# Altium footprint library relay.PCBLIB: 291 footprints (part 14 of 19)
Each footprint in its own frame and in the unit in brackets; x right, y up, seen from the top. Pads: shape width x height; smd on the part's side, far side on the other; paste and mask are expansions set on the pad; w line width, h text height; cw(c..) or ccw(c..) is an arc to the next point about the centre after c.
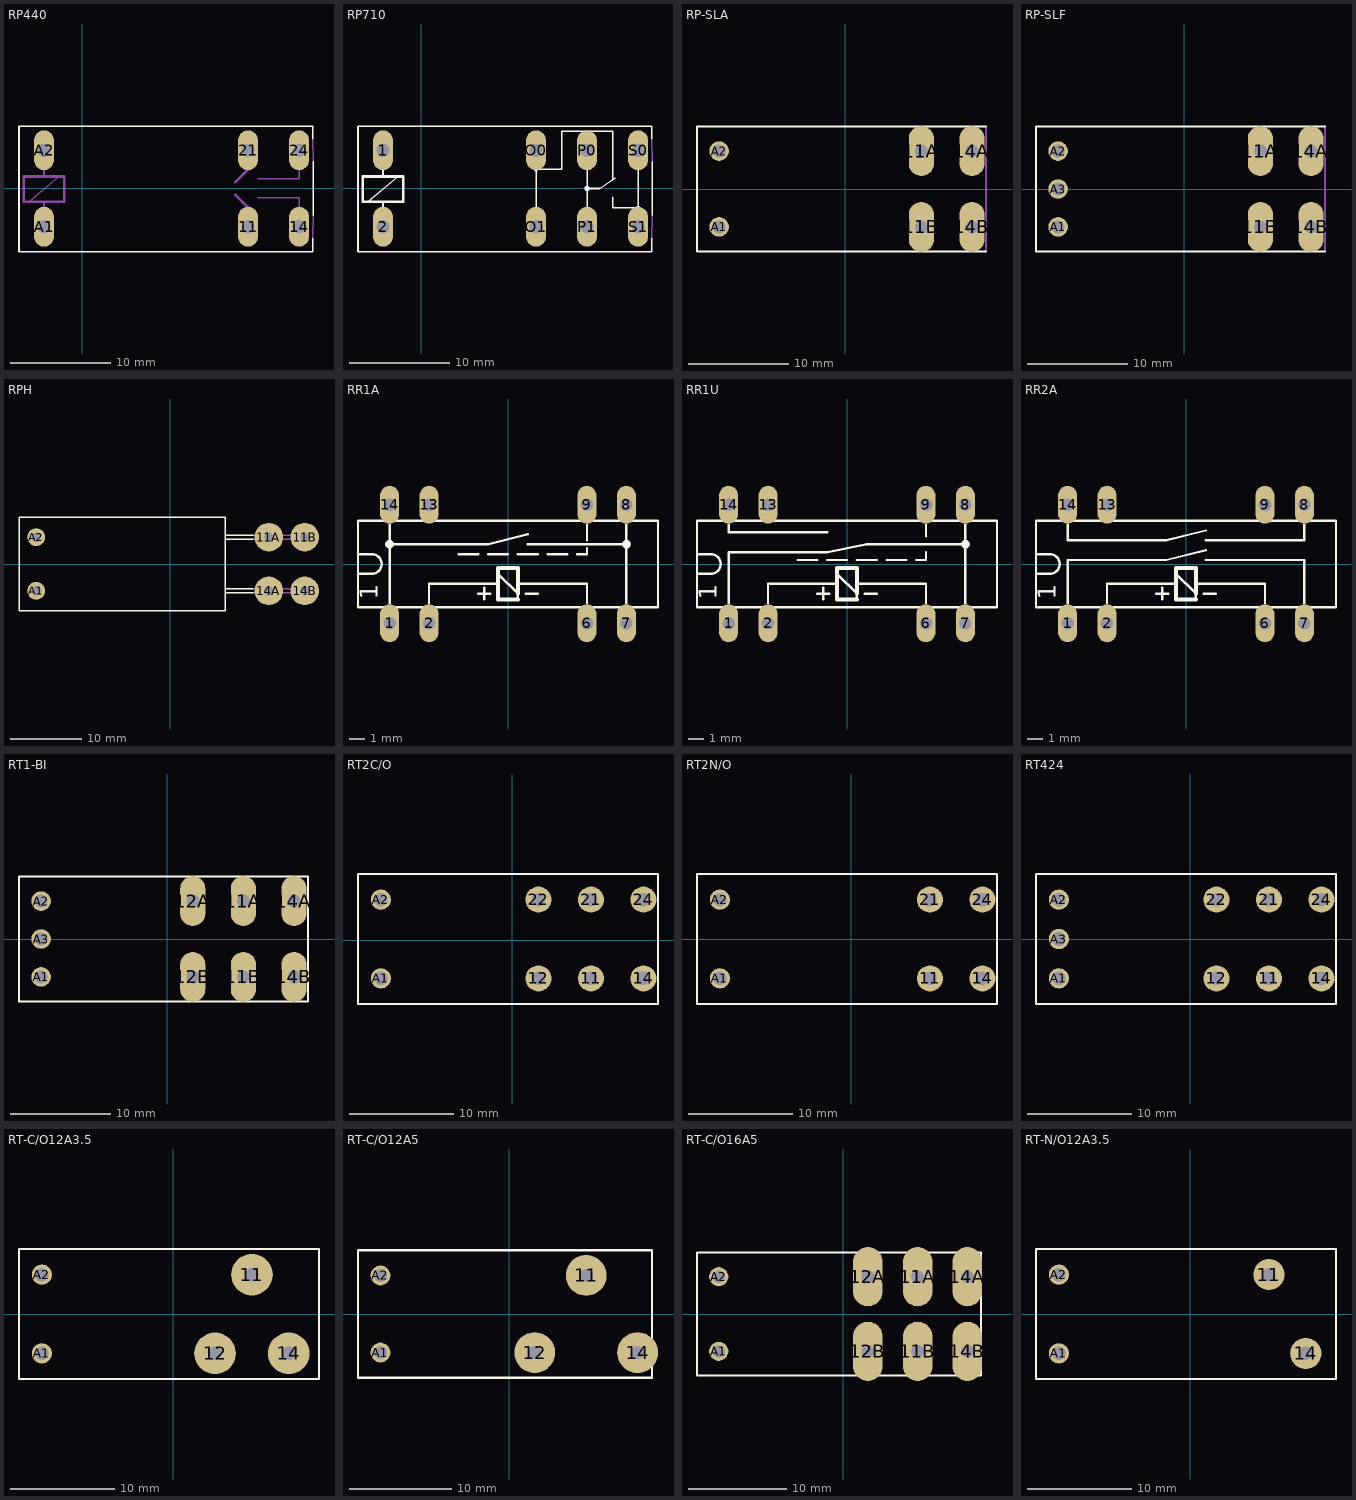
[diagram p13: the footprints below, top view; thin cyan lines are the x and y axes]

## RP440 [mil]
pads (6):
  oval 78x156 hole 52: 11(650,-150) 14(850,-150) 21(650,150) 24(850,150) A1(-150,-150) A2(-150,150)
Top Overlay:
  lines w6: 904,-195 904,-248 -248,-248 -248,244 904,244 904,195 ; 905,-105 905,105
Mechanical 16:
  lines w6: -209,-52 -91,47 ; -150,-81 -150,-52 ; -150,47 -150,81 ; 650,-100 650,-75 ; 650,75 650,100 ; 688,-37 850,-37 850,-85 ; 688,38 850,38 850,83 ; 904,-195 905,-105 ; 904,195 905,105
  lines w10: 600,-25 648.43,-72.43 ; 600,25 650,75 ; -229,-52 -229,47 -150,47 -91,47 -71,47 -71,-52 -150,-52 -209,-52 -229,-52
  text "RP420" at 200,-200 h108.5

## RP710 [mil]
pads (8):
  oval 78x156 hole 52: 1(-150,150) 2(-150,-150) O0(450,150) O1(450,-150) P0(650,150) P1(650,-150) S0(850,150) S1(850,-150)
Top Overlay:
  circle w6: c850,-75 r5
  circle w10: c650,0 r5
  circle w6: c450,75 r5
  lines w6: -209,-52 -91,47 ; -150,-81 -150,-52 ; -150,47 -150,81 ; 450,-85 450,75 ; 450,85 450,75 ; 650,-82 650,0 ; 650,83 650,0 ; 750,-35 750,-75 850,-75 ; 750,35 750,225 550,225 550,75 450,75 ; 760,40 700,0 650,0 ; 850,-85 850,-75 ; 850,85 850,-75 ; 904,-195 904,-248 -248,-248 -248,244 904,244 904,195 ; 905,-105 905,105
  lines w10: -229,-52 -229,47 -150,47 -91,47 -71,47 -71,-52 -150,-52 -209,-52 -229,-52
Mechanical 16:
  lines w6: 904,-195 905,-105 ; 904,195 905,105
  text "RP710" at 200,-200 h108.5

## RP-SLA [mil]
pads (6):
  oval 98.43x196.86 hole 51.18: 11A(297.64,148.82) 11B(297.64,-148.82) 14A(496.06,148.82) 14B(496.06,-148.82)
  round 76.77 hole 51.18: A1(-496.06,-148.82) A2(-496.06,148.82)
Top Overlay:
  lines w8: 551.18,-246.06 -582.68,-246.06 -582.68,246.06 551.18,246.06
Mechanical 16:
  lines w8: 551.18,-246.06 551.18,246.06

## RP-SLF [mil]
pads (7):
  oval 98.43x196.86 hole 51.18: 11A(297.64,148.82) 11B(297.64,-148.82) 14A(496.06,148.82) 14B(496.06,-148.82)
  round 76.77 hole 51.18: A1(-496.06,-148.82) A2(-496.06,148.82) A3(-496.06,0)
Top Overlay:
  lines w8: 551.18,-246.06 -582.68,-246.06 -582.68,246.06 551.18,246.06
Mechanical 16:
  lines w8: 551.18,-246.06 551.18,246.06

## RPH [mm]
pads (6):
  round 4 hole 1.3: 11A(13.75,3.75) 11B(18.75,3.75) 14A(13.75,-3.75) 14B(18.75,-3.75)
  round 2.5 hole 1.3: A1(-18.75,-3.75) A2(-18.75,3.75)
Top Overlay:
  lines w0.203: 7.75,-4.05 11.55,-4.05 ; 7.75,-3.45 11.55,-3.45 ; 7.75,3.45 11.55,3.45 ; 7.75,4.05 11.55,4.05 ; -21.15,-6.5 7.65,-6.5 7.65,6.5 -21.15,6.5 -21.15,-6.5
Mechanical 16:
  lines w0.203: 11.55,-4.05 13.3,-4.05 ; 11.55,-3.45 13.3,-3.45 ; 11.55,3.45 13.3,3.45 ; 11.55,4.05 13.3,4.05 ; 13.3,-4.05 19.15,-4.05 19.15,-3.45 13.3,-3.45 ; 13.3,-4.05 13.3,-3.45 ; 13.3,3.45 19.15,3.45 19.15,4.05 13.3,4.05 ; 13.3,3.45 13.3,4.05

## RR1A [mil]
pads (8):
  oval 48x96 hole 32: 1(-300,-150) 2(-200,-150) 6(200,-150) 7(300,-150) 8(300,150) 9(200,150) 13(-200,150) 14(-300,150)
Top Overlay:
  circle w12: c300,50 r5
  circle w12: c-300,50 r5
  lines w6: -300,-100 -300,50 ; -300,100 -300,50 ; -200,-100 -200,-50 -25,-50 ; -125,25 -75,25 ; -75,-75 -45,-75 ; -60,-90 -60,-60 ; -50,25 0,25 ; -25,-25 25,-75 25,-90 ; 25,-50 200,-50 200,-100 ; 25,25 75,25 ; 45,-75 75,-75 ; 50,50 300,50 ; 50,75 -50,50 -300,50 ; 100,25 150,25 ; 175,25 200,25 200,40 ; 200,60 200,100 ; 300,-100 300,50 ; 300,100 300,50 ; -380,-25 -345,-25 ccw(c-345,0) -345,25 -380,25 ; -380,-25 -380,-110 380,-110 380,110 -380,110 -380,25 ; -380,-25 -380,25
  lines w10: 25,-90 -25,-90 -25,-50 -25,-25 -25,-10 25,-10 25,-50 25,-75
  text "1" at -315,-90 h77.5

## RR1U [mil]
pads (8):
  oval 48x96 hole 32: 1(-300,-150) 2(-200,-150) 6(200,-150) 7(300,-150) 8(300,150) 9(200,150) 13(-200,150) 14(-300,150)
Top Overlay:
  circle w12: c300,50 r5
  lines w6: -300,-100 -300,30 -50,30 50,50 300,50 ; -300,100 -300,80 -50,80 ; -200,-100 -200,-50 -25,-50 ; -125,10 -75,10 ; -75,-75 -45,-75 ; -60,-90 -60,-60 ; -50,10 0,10 ; -25,-25 25,-75 25,-90 ; 25,-50 200,-50 200,-100 ; 25,10 75,10 ; 45,-75 75,-75 ; 100,10 150,10 ; 175,10 200,10 200,30 ; 200,70 200,100 ; 300,-100 300,50 ; 300,100 300,50 ; -380,-25 -345,-25 ccw(c-345,0) -345,25 -380,25 ; -380,-25 -380,-110 380,-110 380,110 -380,110 -380,25 ; -380,-25 -380,25
  lines w10: 25,-90 -25,-90 -25,-50 -25,-25 -25,-10 25,-10 25,-50 25,-75
  text "1" at -315,-90 h77.5

## RR2A [mil]
pads (8):
  oval 48x96 hole 32: 1(-300,-150) 2(-200,-150) 6(200,-150) 7(300,-150) 8(300,150) 9(200,150) 13(-200,150) 14(-300,150)
Top Overlay:
  lines w6: -300,-100 -300,10 -50,10 50,35 ; -300,100 -300,60 -50,60 50,85 ; -200,-100 -200,-50 -25,-50 ; -75,-75 -45,-75 ; -60,-90 -60,-60 ; -25,-25 25,-75 25,-90 ; 25,-50 200,-50 200,-100 ; 45,-75 75,-75 ; 50,10 300,10 300,-100 ; 50,60 300,60 300,100 ; -380,-25 -345,-25 ccw(c-345,0) -345,25 -380,25 ; -380,-25 -380,-110 380,-110 380,110 -380,110 -380,25 ; -380,-25 -380,25
  lines w10: 25,-90 -25,-90 -25,-50 -25,-25 -25,-10 25,-10 25,-50 25,-75
  text "1" at -315,-90 h77.5

## RT1-BI [mil]
pads (9):
  oval 98.43x196.86 hole 51.18: 11A(297.64,148.82) 11B(297.64,-148.82) 12A(99.21,148.82) 12B(99.21,-148.82) 14A(496.06,148.82) 14B(496.06,-148.82)
  round 76.77 hole 51.18: A1(-496.06,-148.82) A2(-496.06,148.82) A3(-496.06,0)
Top Overlay:
  lines w8: -582.68,-246.06 551.18,-246.06 551.18,246.06 -582.68,246.06 -582.68,-246.06

## RT2C/O [mil]
pads (8):
  round 98.43 hole 51.18: 11(297.64,-144.88) 12(99.21,-144.88) 14(496.06,-144.88) 21(297.64,152.76) 22(99.21,152.76) 24(496.06,152.76)
  round 76.77 hole 51.18: A1(-496.06,-144.88) A2(-496.06,152.76)
Top Overlay:
  lines w8: -582.68,-242.13 551.18,-242.13 551.18,250 -582.68,250 -582.68,-242.13

## RT2N/O [mil]
pads (6):
  round 98.43 hole 51.18: 11(297.64,-148.82) 14(496.06,-148.82) 21(297.64,148.82) 24(496.06,148.82)
  round 76.77 hole 51.18: A1(-496.06,-148.82) A2(-496.06,148.82)
Top Overlay:
  lines w8: -582.68,-246.06 551.18,-246.06 551.18,246.06 -582.68,246.06 -582.68,-246.06

## RT424 [mil]
pads (9):
  round 98.43 hole 51.18: 11(297.64,-148.82) 12(99.21,-148.82) 14(496.06,-148.82) 21(297.64,148.82) 22(99.21,148.82) 24(496.06,148.82)
  round 76.77 hole 51.18: A1(-496.06,-148.82) A2(-496.06,148.82) A3(-496.06,0)
Top Overlay:
  lines w8: -582.68,-246.06 551.18,-246.06 551.18,246.06 -582.68,246.06 -582.68,-246.06

## RT-C/O12A3.5 [mm]
pads (5):
  round 4 hole 1.3: 11(7.56,3.78) 12(4.02,-3.78) 14(11.1,-3.78)
  round 1.95 hole 1.3: A1(-12.6,-3.78) A2(-12.6,3.78)
Top Overlay:
  lines w0.203: -14.8,-6.25 14,-6.25 14,6.25 -14.8,6.25 -14.8,-6.25

## RT-C/O12A5 [mm]
pads (5):
  round 4 hole 1.3: 11(7.56,3.78) 12(2.52,-3.78) 14(12.6,-3.78)
  round 1.95 hole 1.3: A1(-12.6,-3.78) A2(-12.6,3.78)
Top Overlay:
  lines w0.203: -14.8,-6.25 14,-6.25 14,6.25 -14.8,6.25 -14.8,-6.25

## RT-C/O16A5 [mm]
pads (8):
  oval 3x6 hole 1.3: 11A(7.56,3.78) 11B(7.56,-3.78) 12A(2.52,3.78) 12B(2.52,-3.78) 14A(12.6,3.78) 14B(12.6,-3.78)
  round 1.95 hole 1.3: A1(-12.6,-3.78) A2(-12.6,3.78)
Top Overlay:
  lines w0.203: -14.8,-6.25 14,-6.25 14,6.25 -14.8,6.25 -14.8,-6.25

## RT-N/O12A3.5 [mm]
pads (4):
  round 3 hole 1.3: 11(7.56,3.78) 14(11.1,-3.78)
  round 1.95 hole 1.3: A1(-12.6,-3.78) A2(-12.6,3.78)
Top Overlay:
  lines w0.203: -14.8,-6.25 14,-6.25 14,6.25 -14.8,6.25 -14.8,-6.25